# Altium integrated library IPT015N10N5.IntLib: 1 symbol
Pins are listed as number, name and electrical type; pins without a type are passive.

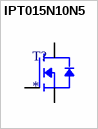
[diagram p0: symbol IPT015N10N5]

## IPT015N10N5
designator T?
N-Channel 100 V 300A (Tc) 375W (Tc) Surface Mount PG-HSOF-8-1; MF: Infineon; MP: IPT015N10N5; SnapEDA_Link: https://www.snapeda.com/parts/IPT015N10N5/Infineon/view-part/?ref=snap; Package: PowerSFN-8 Infineon; Value: *; Check_prices: https://www.snapeda.com/parts/IPT015N10N5/Infineon/view-part/?ref=eda
footprint PG-HSOF8
pins: G, S1 S, TAP D